# EAGLE library part SP3232EEN-L_TR (library SamacSys_Parts)
RS-232 Interface IC TRUE +3V-+5.5V RS-232 Source: Datasheet <https://www.maxlinear.com/ds/sp3222e_sp3232e.pdf>
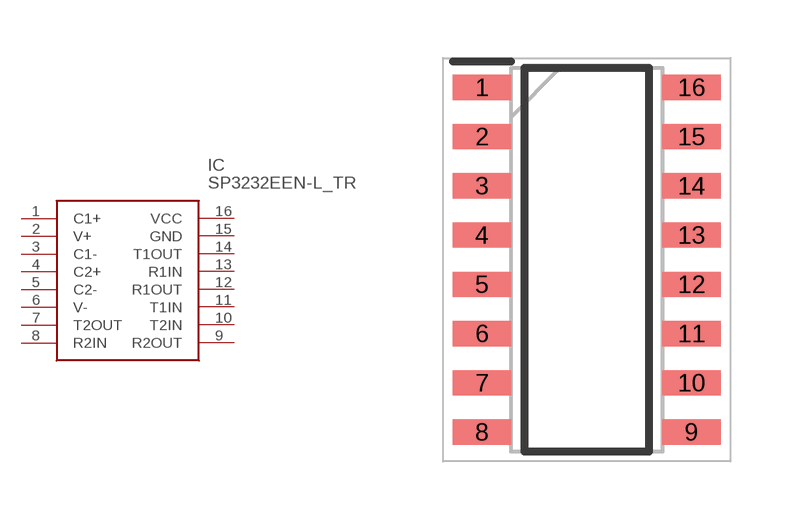
[diagram p12: symbol with the pads of SOIC127P600X175-16N; footprint SOIC127P600X175-16N]

Designator prefix IC

## SP3232EEN-L_TR (DESCRIPTION: RS-232 Interface IC TRUE +3V-+5.5V RS-232; HEIGHT: 1.75mm; MANUFACTURER_NAME: MaxLinear, Inc.; MANUFACTURER_PART_NUMBER: SP3232EEN-L/TR; MOUSER_PART_NUMBER: 701-SP3232EEN-L/TR; MOUSER_PRICE-STOCK: https://www.mouser.co.uk/ProductDetail/MaxLinear/SP3232EEN-L-TR?qs=Hy8V1%2FADhVKNh9v9NvoeCw%3D%3D)  [SOIC127P600X175-16N]
1  C1+
2  V+
3  C1-
4  C2+
5  C2-
6  V-
7  T2OUT
8  R2IN
9  R2OUT
10  T2IN
11  T1IN
12  R1OUT
13  R1IN
14  T1OUT
15  GND
16  VCC

## Footprint SOIC127P600X175-16N (pad centres in mm)
NSOIC16-1
smd 1.5 x 0.65: 1 -2.7,4.445; 2 -2.7,3.175; 3 -2.7,1.905; 4 -2.7,0.635; 5 -2.7,-0.635; 6 -2.7,-1.905; 7 -2.7,-3.175; 8 -2.7,-4.445; 9 2.7,-4.445; 10 2.7,-3.175; 11 2.7,-1.905; 12 2.7,-0.635; 13 2.7,0.635; 14 2.7,1.905; 15 2.7,3.175; 16 2.7,4.445